# EAGLE library part MODULE (library antennenanalysator_m4_1)
AD9850 DDS Module, widely available on eBay for very low cost
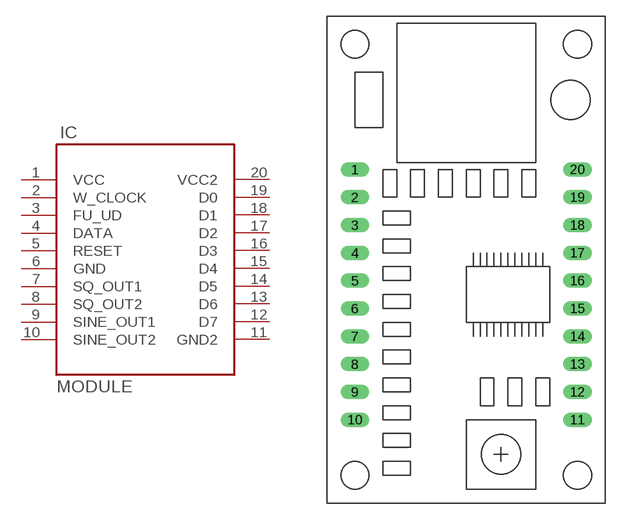
[diagram p0: symbol with the pads of MODULE; footprint MODULE]

Designator prefix IC

## MODULE  [MODULE]
1  VCC  pwr
2  W_CLOCK  in
3  FU_UD  in
4  DATA  in
5  RESET  in
6  GND  pwr
7  SQ_OUT1  out
8  SQ_OUT2  out
9  SINE_OUT1  out
10  SINE_OUT2  out
11  GND2  pwr
12  D7  in
13  D6  in
14  D5  in
15  D4  in
16  D3  in
17  D2  in
18  D1  in
19  D0  in
20  VCC2  pwr

## Footprint MODULE (pad centres in mm)
drill 0.8 long: 1 -10.16,11.43; 2 -10.16,8.89; 3 -10.16,6.35; 4 -10.16,3.81; 5 -10.16,1.27; 6 -10.16,-1.27; 7 -10.16,-3.81; 8 -10.16,-6.35; 9 -10.16,-8.89; 10 -10.16,-11.43; 11 10.16,-11.43; 12 10.16,-8.89; 13 10.16,-6.35; 14 10.16,-3.81; 15 10.16,-1.27; 16 10.16,1.27; 17 10.16,3.81; 18 10.16,6.35; 19 10.16,8.89; 20 10.16,11.43